# Altium footprint library C151251.PcbLib: 1 footprints
Each footprint in its own frame and in the unit in brackets; x right, y up, seen from the top. Pads: shape width x height; smd on the part's side, far side on the other; paste and mask are expansions set on the pad; w line width, h text height; cw(c..) or ccw(c..) is an arc to the next point about the centre after c.
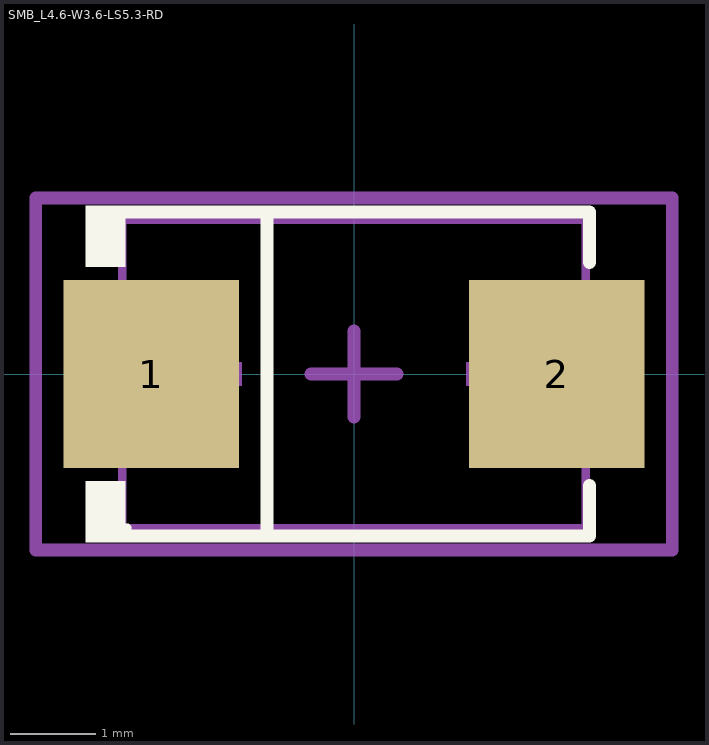
[diagram p0: the footprint, top view; thin cyan lines are the x and y axes]

## SMB_L4.6-W3.6-LS5.3-RD [mm] "21.5VC Clamp 28A@10/1000us Ipp TVS DIODE DO-214AA"
pads (2):
  rect 2.047x2.192 smd: 1(-2.361,0) 2(2.361,0)
Top Overlay:
  circle w0.06: c-2.649,-1.8 r0.03
  region: -2.668,1.962 -2.668,1.249 -3.125,1.249 -3.125,1.962
  region: -2.668,-1.962 -2.668,-1.249 -3.125,-1.249 -3.125,-1.962
  lines w0.152: -2.744,-1.886 2.744,-1.886 2.744,-1.299 ; -2.744,1.886 2.744,1.886 2.744,1.299 ; -1.016,-1.886 -1.016,1.886
AOI:
  region: -2.396,-0.136 -2.396,0.136 -1.31,0.136 -1.31,-0.136
  region: 2.396,-0.136 2.396,0.136 1.31,0.136 1.31,-0.136
  region: 1.989,-0.905 1.989,0.905 1.717,0.905 1.717,-0.905
  region: -2.649,-1.015 -2.649,1.015 -1.509,1.015 -1.509,-1.015
  region: 2.649,-1.015 2.649,1.015 1.509,1.015 1.509,-1.015
Top 3D Body:
  lines w0.1: -2.7,-1.8 2.7,-1.8 2.7,1.8 -2.7,1.8 -2.7,-1.8
Top Courtyard:
  lines w0.15: -0.5,0 0.5,0 ; 0,-0.5 0,0.5 ; -3.707,-2.05 3.707,-2.05 3.707,2.05 -3.707,2.05 -3.707,-2.05
3D body "SMB_L4.6-W3.6-LS5.3-RD.step": height 0.03, standoff 0, extent -2.7,-1.8 2.7,1.8